# EAGLE library part SAMTEC-TSM-116-01-X-SV (library SAMTEC-TSM-116-01-X-SV)
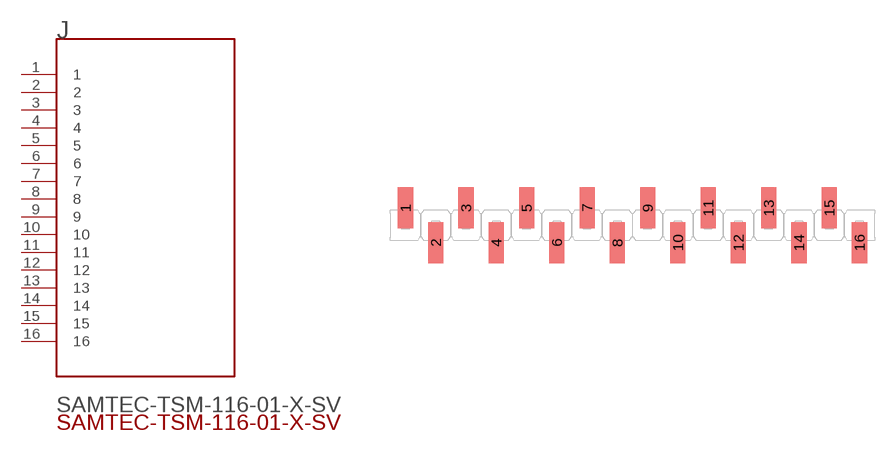
[diagram p0: symbol with the pads of SAMTEC-TSM-116-01-X-SV; footprint SAMTEC-TSM-116-01-X-SV]

Designator prefix J

## SAMTEC-TSM-116-01-X-SVJ  [SAMTEC-TSM-116-01-X-SV]
1  1
2  2
3  3
4  4
5  5
6  6
7  7
8  8
9  9
10  10
11  11
12  12
13  13
14  14
15  15
16  16

## Footprint SAMTEC-TSM-116-01-X-SV (pad centres in mm)
translated Allegro footprint
smd 1.27 x 3.43: 1 -19.05,1.46; 2 -16.51,-1.46; 3 -13.97,1.46; 4 -11.43,-1.46; 5 -8.89,1.46; 6 -6.35,-1.46; 7 -3.81,1.46; 8 -1.27,-1.46; 9 1.27,1.46; 10 3.81,-1.46; 11 6.35,1.46; 12 8.89,-1.46; 13 11.43,1.46; 14 13.97,-1.46; 15 16.51,1.46; 16 19.05,-1.46